# Altium footprint library Copy of diplom.pcblib: 17 footprints (part 1 of 2)
Each footprint in its own frame and in the unit in brackets; x right, y up, seen from the top. Pads: shape width x height; smd on the part's side, far side on the other; paste and mask are expansions set on the pad; w line width, h text height; cw(c..) or ccw(c..) is an arc to the next point about the centre after c.
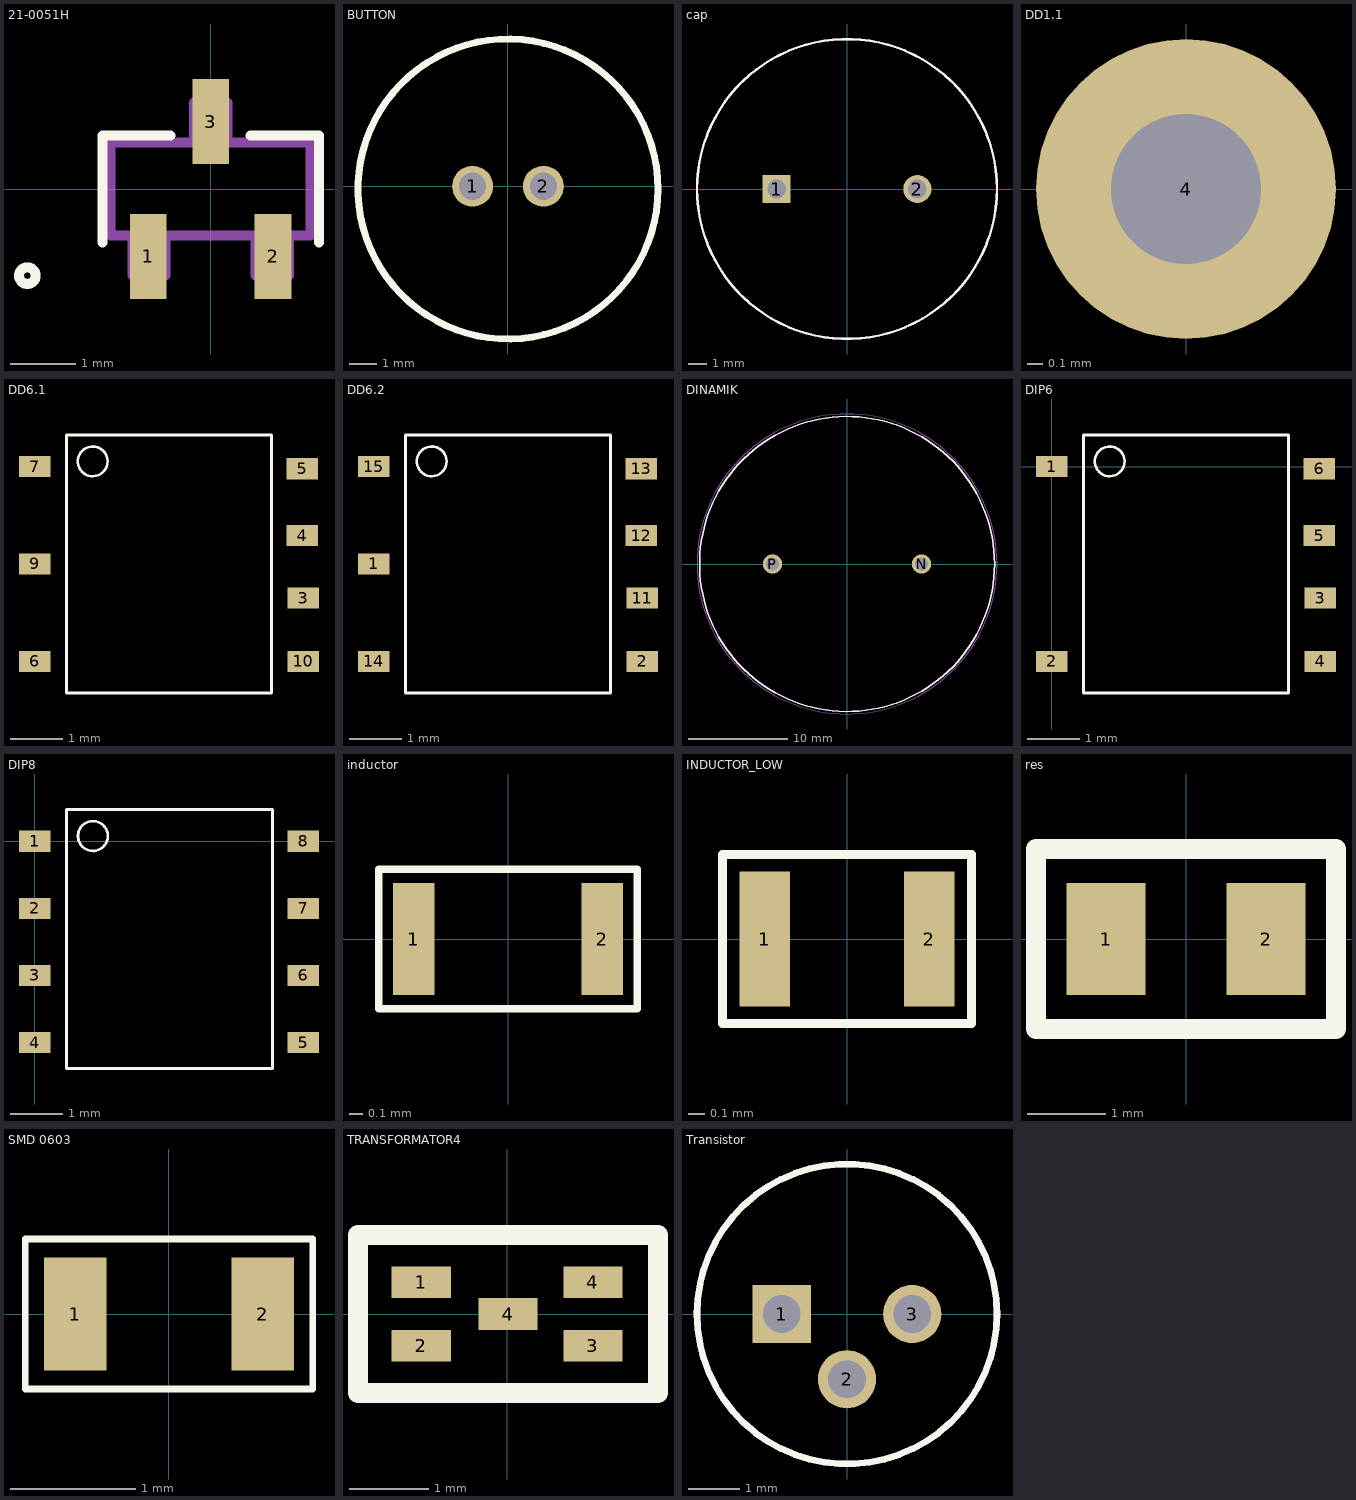
[diagram p0: the footprints below, top view; thin cyan lines are the x and y axes]

## 21-0051H [mil]
pads (3):
  rect 22x51 smd: 1(-37.4,-40.5) 2(37.4,-40.5) 3(0,40.5)
Top Overlay:
  lines w6: -65,-32 -65,32 -24,32 ; 24,32 65,32 65,-32 ; -115,-52 ccw(c-110,-52) -105,-52 ccw(c-110,-52) -115,-52
Mechanical 13:
  lines w6: -60,-28 60,-28 60,28 -60,28 -60,-28 ; -47,-52 -47,-28 -27,-28 -27,-52 -47,-52 ; -10,28 10,28 10,52 -10,52 -10,28 ; 27,-52 27,-28 47,-28 47,-52 27,-52

## AT89C2051 [mm]

## BUTTON [mm]
pads (2):
  round 1.5 hole 1: 1(-1.3,0) 2(1.3,0)
Top Overlay:
  circle w0.254: c0,-0.1 r5.5

## cap [mm]
pads (2):
  rect 1.5x1.5 hole 1: 1(-3.75,0)
  round 1.5 hole 1: 2(3.75,0)
Top Overlay:
  circle w0.127: c0,0 r8
Mechanical 13:
  circle w0.127: c0,0 r8

## DD1.1 [mm]
pads (1):
  round 2 hole 1: 4(0,0)

## DD6.1 [mm]
pads (7):
  rect 0.6x0.4 smd: 3(1272.65,1268.7) 4(1272.63,1269.89) 5(1272.63,1271.16) 6(1267.55,1267.5) 7(1267.55,1271.2) 9(1267.55,1269.35) 10(1272.65,1267.5)
Top Overlay:
  circle w0.05: c1268.65,1271.3 r0.283
  lines w0.054: 1268.15,1266.9 1268.15,1271.8 1272.05,1271.8 1272.05,1266.9 1268.15,1266.9 ; 1268.15,1266.9 1268.15,1266.9

## DD6.2 [mm]
pads (7):
  rect 0.6x0.4 smd: 1(820.625,1240.25) 2(825.725,1238.4) 11(825.725,1239.6) 12(825.705,1240.79) 13(825.705,1242.06) 14(820.625,1238.4) 15(820.625,1242.1)
Top Overlay:
  circle w0.05: c821.725,1242.2 r0.283
  lines w0.054: 821.225,1237.8 821.225,1242.7 825.125,1242.7 825.125,1237.8 821.225,1237.8 ; 821.225,1237.8 821.225,1237.8

## DINAMIK [mm]
height 12.7
pads (2):
  round 1.95 hole 1.3: N(7.5,0) P(-7.5,0)
Top Overlay:
  circle w0.127: c0,0 r14.85
Mechanical 13:
  circle w0.127: c0,0 r14.85
Mechanical 15:
  circle w0.05: c0,0 r15.1

## DIP6 [mm]
pads (6):
  rect 0.6x0.4 smd: 1(0,0) 2(0,-3.7) 3(5.1,-2.5) 4(5.1,-3.7) 5(5.08,-1.31) 6(5.08,-0.04)
Top Overlay:
  circle w0.05: c1.1,0.1 r0.283
  lines w0.054: 0.6,-4.3 0.6,0.6 4.5,0.6 4.5,-4.3 0.6,-4.3 ; 0.6,-4.3 0.6,-4.3

## DIP8 [mm]
pads (8):
  rect 0.6x0.4 smd: 1(0,0) 2(0,-1.27) 3(0,-2.54) 4(0,-3.81) 5(5.08,-3.81) 6(5.08,-2.54) 7(5.08,-1.27) 8(5.08,0)
Top Overlay:
  circle w0.05: c1.1,0.1 r0.283
  lines w0.054: 0.6,-4.3 0.6,0.6 4.5,0.6 4.5,-4.3 0.6,-4.3 ; 0.6,-4.3 0.6,-4.3

## inductor [mm]
pads (2):
  rect 0.3x0.8 smd: 1(-0.675,0) 2(0.675,0)
Top Overlay:
  lines w0.054: -0.925,-0.5 0.925,-0.5 0.925,0.5 -0.925,0.5 -0.925,-0.45 -0.925,-0.5

## INDUCTOR_LOW [mm]
pads (2):
  rect 0.3x0.8 smd: 1(-0.487,0) 2(0.487,0)
Top Overlay:
  lines w0.054: -0.737,-0.5 0.737,-0.5 0.737,0.5 -0.737,0.5 -0.737,-0.45 -0.737,-0.5

## res [mm]
pads (2):
  rect 1x1.42 smd: 1(-1.016,0) 2(1.016,0)
Top Overlay:
  lines w0.254: -1.905,-1.143 -1.905,1.143 1.905,1.143 1.905,-1.143 -1.905,-1.143

## SMD 0603 [mm]
pads (2):
  rect 0.5x0.9 smd: 1(-0.75,0) 2(0.75,0)
Top Overlay:
  lines w0.054: -1.15,-0.6 -1.15,0.6 1.15,0.6 1.15,-0.6 -1.15,-0.6

## TRANSFORMATOR4 [mm]
height 1.3
pads (5):
  rect 0.75x0.4 smd: 1(-1.087,0.4) 2(-1.087,-0.4) 3(1.088,-0.4) 4(0.013,0) 4(1.088,0.4)
Top Overlay:
  lines w0.254: -1.887,-1 1.913,-1 1.913,1 -1.887,1 -1.887,-1
Mechanical 13:
  lines w0.127: -1.887,-1 1.913,-1 1.913,1 -1.887,1 -1.887,-1

## Transistor [mm]
pads (3):
  rect 1.13x1.13 hole 0.73: 1(-1.27,0)
  round 1.13 hole 0.73: 2(0,-1.27) 3(1.27,0)
Top Overlay:
  circle w0.127: c0,0 r2.92
Mechanical 13:
  circle w0.127: c0,0 r2.92